# Altium integrated library Diode.IntLib: 32 symbols
Pins are listed as number, name and electrical type; pins without a type are passive.

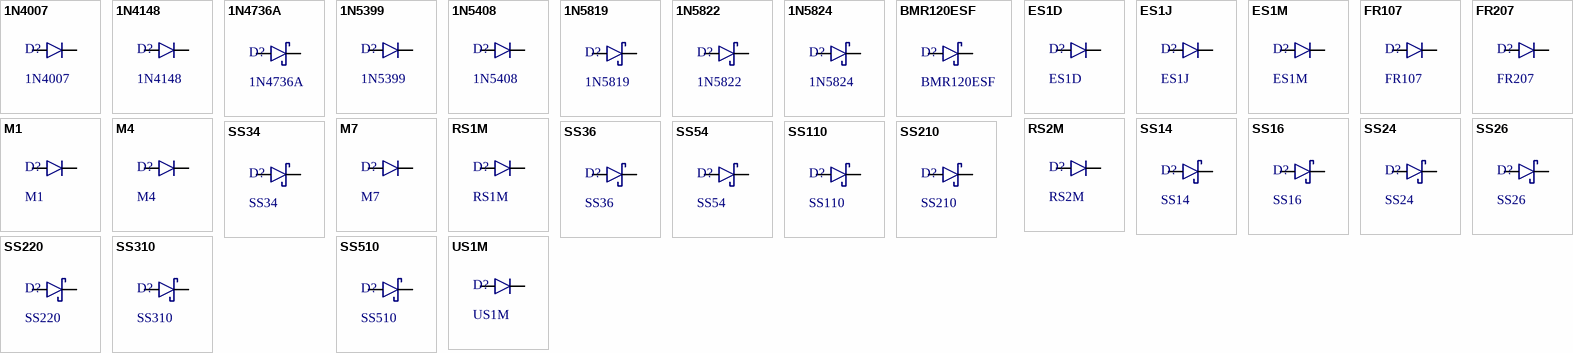
[diagram p0: symbols 1N4007 to US1M]

## 1N4007
designator D?
Rectifier Diode 1000V 1A DO-41; Mouser PN: 637-1N4007; ComponentLink1Description: Datasheet; ComponentLink1URL: https://www.mouser.com/datasheet/2/849/1n4001-2577232.pdf; Digikey PN: 4617-1N4007TB-ND; JLCPCB PN: C3033995
footprint 1N4007 (Rectifier Diode 1000V 1A DO-41)
pins: 1, 2  

## 1N4148
designator D?
Diode Gen Purp 75V 300mA DO35; Digikey PN: 1655-1N4148CT-ND; Mouser PN: 637-1N5399; JLCPCB PN: C14516
footprint 1N4148 (Diode Gen Purp 75V 300mA DO35)
pins: 1, 2  

## 1N4736A
designator D?
Zener Diode 6.8V 1W DO-41; JLCPCB PN: C2539
footprint 1N4736A
pins: 1, 2  

## 1N5399
designator D?
Diode Gen Purp 1000V 1.5A DO15; Digikey PN: 2156-1N5399-ND; JLCPCB PN: C402215
footprint 1N5399 (Diode Gen Purp 1000V 1.5A DO15)
pins: 1, 2  

## 1N5408
designator D?
Diode Gen Purp 1000V 3A DO15; Mouser PN: 637-1N5408; Digikey PN: 2156-1N5408-ND; JLCPCB PN: C402216
footprint 1N5408 (Diode Gen Purp 1000V 3A DO15)
pins: 1, 2  

## 1N5819
designator D?
Rectifier Schottky 40V 1A DO-15; Mouser PN: 637-1N5819; ComponentLink1Description: Datasheet; ComponentLink1URL: https://www.mouser.com/datasheet/2/849/1n5817-2577238.pdf; Digikey PN: 497-6610-1-ND; JLCPCB PN: C437199
footprint 1N5819 (Rectifier Schottky 40V 1A DO-15 10mm)
pins: 1, 2  

## 1N5822
designator D?
Diode Schottky 40V 3A DO201AD; Digikey PN: 497-11370-1-ND; Mouser PN: 511-1N5822; JLCPCB PN: C3018526
footprint DO201AD
pins: 1, 2  

## 1N5824
designator D?
Diode Schottky 30V 5A DO201AD; JLCPCB PN: C508482
footprint DO201AD
pins: 1, 2  

## BMR120ESF
designator D?
Rectifier Schottky 20V 1A SOD−123FL.; ComponentLink1Description: Datasheet; ComponentLink1URL: https://www.onsemi.com/pdf/datasheet/mbr120esft1-d.pdf
footprint MBR120ESF
pins: 1, 2  

## ES1D
designator D?
Ultra Fast Recovery Rectifier 200V 1A SMA; Mouser PN: 512-ES1D; ComponentLink1Description: Datasheet; Digikey PN: ES1DFSTR-ND; JLCPCB PN: C1884566
footprint DIODE_SMA (Diode SMA)
pins: 1, 2  

## ES1J
designator D?
Ultra Fast Recovery Rectifier 600V 1A SMA; Mouser PN: 512-ES1J; ComponentLink1Description: Datasheet; Digikey PN: 4617-ES1JTR-ND; JLCPCB PN: C232830
footprint DIODE_SMA (Diode SMA)
pins: 1, 2  

## ES1M
designator D?
Ultra Fast Recovery Rectifier 1000V 1A SMA; Mouser PN: 833-ES1M-TP; ComponentLink1Description: Datasheet; Digikey PN: 1655-ES1MCT-ND; JLCPCB PN: C2891301
footprint DIODE_SMA (Diode SMA)
pins: 1, 2  

## FR107
designator D?
Diode Gen Purp 1000V 1A DO41; Digikey PN: 4617-FR107TB-ND; JLCPCB PN: C842808
footprint FR107 (Diode Gen Purp 1000V 1A DO41)
pins: 1, 2  

## FR207
designator D?
Diode Gen Purp 1000V 2A DO15; Digikey PN: 1655-FR207CT-ND; JLCPCB PN: C3011150
footprint FR207 (Diode Gen Purp 1000V 2A DO15)
pins: 1, 2  

## M1
designator D?
Rectifiers Diode 50V 1A SMA; ComponentLink1Description: Datasheet; Mouser PN: 637-M7; Digikey PN: 3191-M7CT-ND; JLCPCB PN: C2909964
footprint DIODE_SMA (Diode SMA)
pins: 1, 2  

## M4
designator D?
Rectifiers Diode 400V 1A SMA; ComponentLink1Description: Datasheet; Mouser PN: 637-M4; Digikey PN: 3372-M4TR-ND; JLCPCB PN: C383019
footprint DIODE_SMA (Diode SMA)
pins: 1, 2  

## M7
designator D?
Rectifiers Diode 1000V 1A SMA; ComponentLink1Description: Datasheet; Mouser PN: 637-M7; Digikey PN: 3191-M7CT-ND; JLCPCB PN: C330214
footprint DIODE_SMA (Diode SMA)
pins: 1, 2  

## RS1M
designator D?
Fast Recovery Rectifier 1000V 1A SMA; Mouser PN: 512-RS1M; ComponentLink1Description: Datasheet; Digikey PN: 1655-RS1MTR-ND; JLCPCB PN: C2931775
footprint DIODE_SMA (Diode SMA)
pins: 1, 2  

## RS2M
designator D?
Fast Recovery Rectifier 1000V 2A SMA; Mouser PN: 821-RS2M; ComponentLink1Description: Datasheet; Digikey PN: 1801-RS2MTR-ND; JLCPCB PN: C2931776
footprint DIODE_SMA (Diode SMA)
pins: 1, 2  

## SS14
designator D?
Rectifier Schottky 40V 1A SMA; Mouser PN: 512-SS14; ComponentLink1Description: Datasheet; Digikey PN: SS14-E3/5ATGITR-ND; JLCPCB PN: C2837270
footprint DIODE_SMA (Diode SMA)
pins: 1, 2  

## SS16
designator D?
Rectifier Schottky 60V 1A SMA; Mouser PN: 821-SS16; ComponentLink1Description: Datasheet; Digikey PN: 2156-SS16-ND; JLCPCB PN: C908233
footprint DIODE_SMA (Diode SMA)
pins: 1, 2  

## SS24
designator D?
Rectifier Schottky 40V 2A SMA; Mouser PN: 821-SS24; ComponentLink1Description: Datasheet; Digikey PN: SS24S-M3/5ATGITR-ND; JLCPCB PN: C727055
footprint DIODE_SMA (Diode SMA)
pins: 1, 2  

## SS26
designator D?
Rectifier Schottky 60V 2A SMA; Mouser PN: 821-SS26; ComponentLink1Description: Datasheet; Digikey PN: 2156-SS26-ND; JLCPCB PN: C5123304
footprint DIODE_SMA (Diode SMA)
pins: 1, 2  

## SS34
designator D?
Rectifier Schottky 40V 3A SMA; Mouser PN: 512-SS34; ComponentLink1Description: Datasheet; Digikey PN: SS34FSTR-ND; JLCPCB: C2909963
footprint DIODE_SMA (Diode SMA)
pins: 1, 2  

## SS36
designator D?
Rectifier Schottky 60V 3A SMA; Mouser PN: 512-SS36; ComponentLink1Description: Datasheet; Digikey PN: SS36FSTR-ND; JLCPCB PN: C3011103
footprint DIODE_SMA (Diode SMA)
pins: 1, 2  

## SS54
designator D?
Rectifier Schottky 40V 5A SMA; JLCPCB PN: C727065
footprint DIODE_SMA (Diode SMA)
pins: 1, 2  

## SS110
designator D?
Rectifier Schottky 100V 1A SMA; Mouser PN: 821-SS110; ComponentLink1Description: Datasheet; Digikey PN: 1655-SS110TR-ND; JLCPCB PN: C727053
footprint DIODE_SMA (Diode SMA)
pins: 1, 2  

## SS210
designator D?
Rectifier Schottky 100V 2A SMB; Mouser PN: 821-SS210; ComponentLink1Description: Datasheet; Digikey PN: 1801-SS210TR-ND; JLCPCB PN: C3033282
footprint DIODE_SMB (Diode SMB)
pins: 1, 2  

## SS220
designator D?
Rectifier Schottky 200V 2A SMA; Mouser PN: 750-SS220-HF; ComponentLink1Description: Datasheet; Digikey PN: 4617-SS220TR-ND; JLCPCB PN: C432147
footprint DIODE_SMA (Diode SMA)
pins: 1, 2  

## SS310
designator D?
Rectifier Schottky 100V 3A SMB; Mouser PN: 821-SS310; ComponentLink1Description: Datasheet; Digikey PN: 1801-SS310TR-ND; JLCPCB PN: C330484
footprint DIODE_SMB (Diode SMB)
pins: 1, 2  

## SS510
designator D?
Rectifier Schottky 100V 5A SMC; Mouser PN: 750-SS510-HF; ComponentLink1Description: Datasheet; Digikey PN: 4617-SS510TR-ND; JLCPCB PN: C2887672
footprint DIODE_SMC (Diode SMC)
pins: 1, 2  

## US1M
designator D?
High Efficient Recovery Rectifier 1000V 1A SMA; Mouser PN: 821-US1M; ComponentLink1Description: Datasheet; Digikey PN: 4617-US1MTR-ND; JLCPCB PN: C330229
footprint DIODE_SMA (Diode SMA)
pins: 1, 2  